# Altium footprint library Diode.PcbLib: 58 footprints (part 3 of 4)
Each footprint in its own frame and in the unit in brackets; x right, y up, seen from the top. Pads: shape width x height; smd on the part's side, far side on the other; paste and mask are expansions set on the pad; w line width, h text height; cw(c..) or ccw(c..) is an arc to the next point about the centre after c.
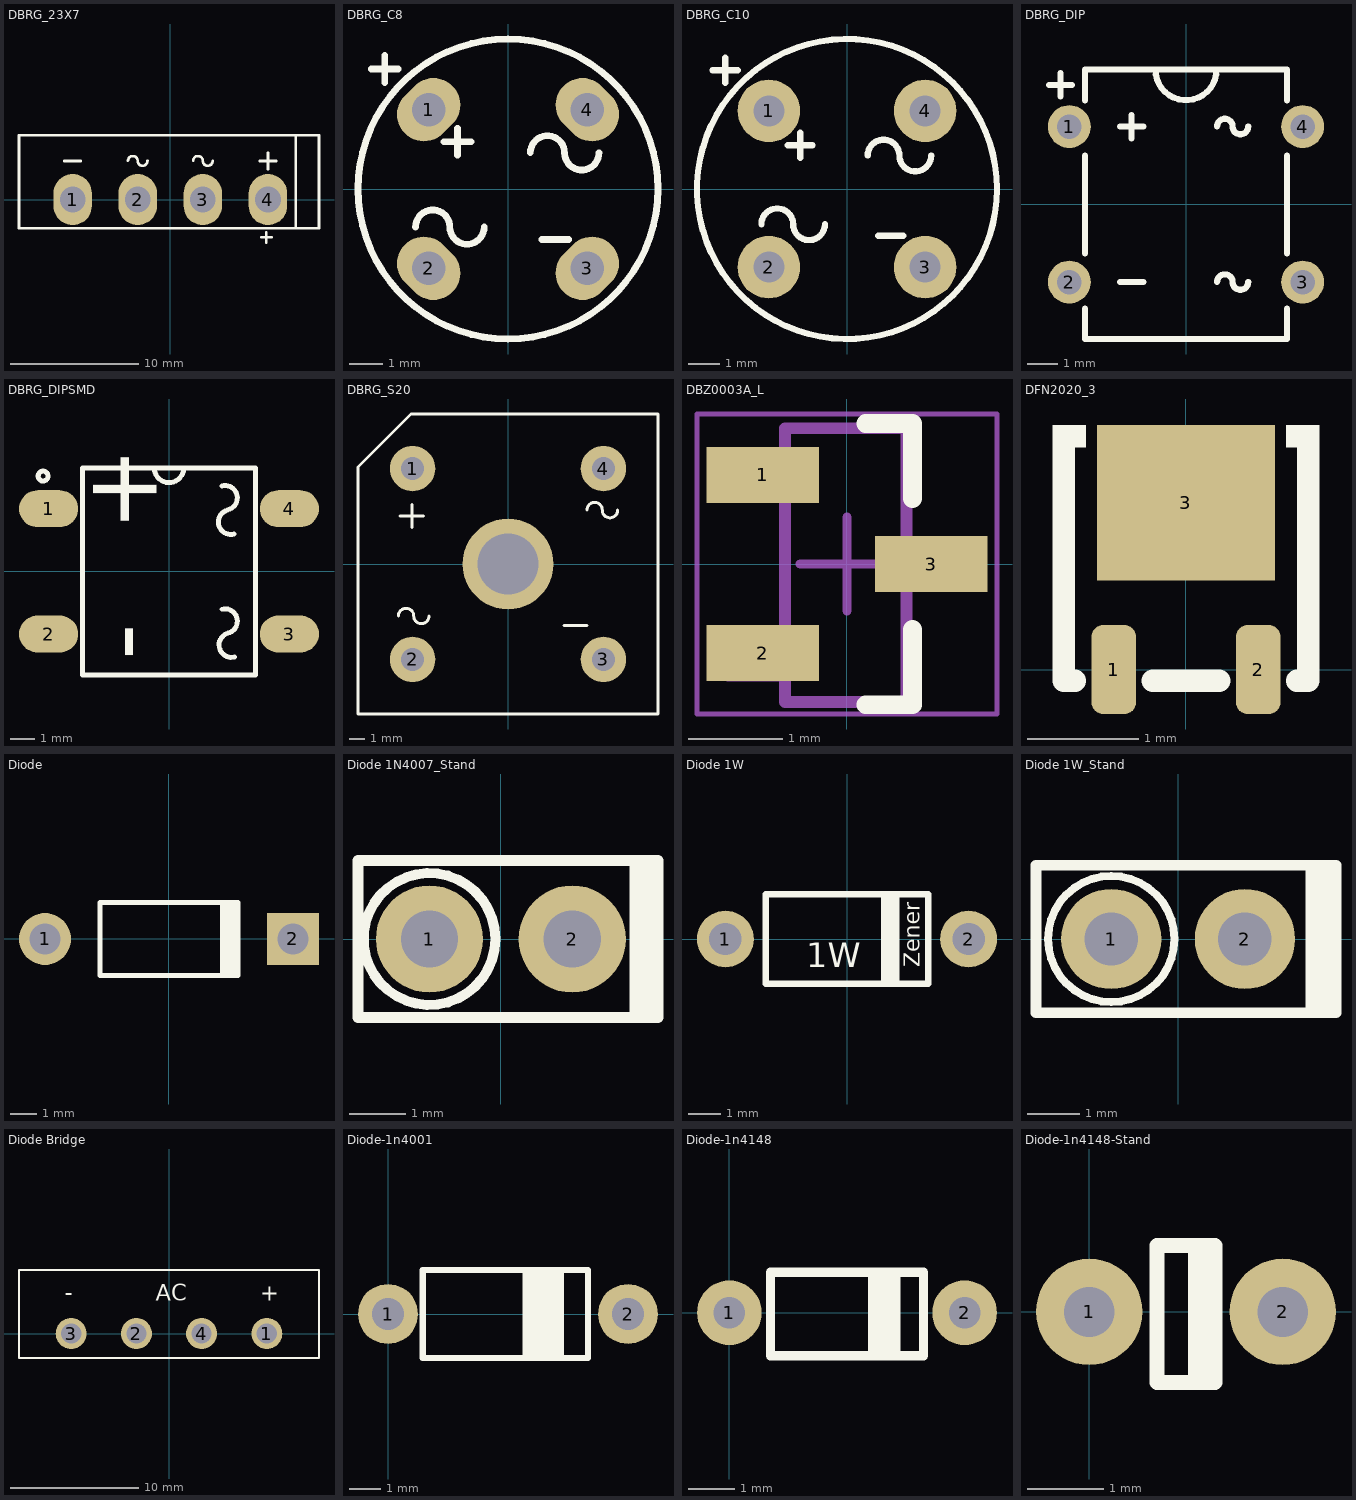
[diagram p2: the footprints below, top view; thin cyan lines are the x and y axes]

## DBRG_23X7 [mm] "BRDIGE RECTIFIER, KBU 810 pitch: 5.08mm, 23X7X19mm"
height 19
pads (4):
  oval 3x4 hole 2: 1(-7.62,0) 2(-2.54,0) 3(2.54,0) 4(7.62,0)
Top Overlay:
  lines w0.2: -8.255,3.009 -6.985,3.009 ; -3.302,3.015 cw(c-2.921,3.015) -2.54,3.015 ccw(c-2.159,3.015) -1.778,3.015 ; 1.778,3.015 cw(c2.159,3.015) 2.54,3.015 ccw(c2.921,3.015) 3.302,3.015 ; 6.985,3.009 8.255,3.009 ; 7.1,-2.954 7.9,-2.954 ; 7.5,-3.354 7.5,-2.554 ; 7.62,2.374 7.62,3.644 ; 9.8,-2.254 9.8,4.953 ; -11.8,-2.254 11.6,-2.254 11.6,5 -11.8,5 -11.8,-2.254
3D body "KBU8M.STEP": height 19.3, standoff -4, extent -11.7,-1.91 11.5,4.95

## DBRG_C8 [mm] "BRDIGE RECTIFIER, pitch: 4.7mm, 8X8mm"
height 5.1
pads (4):
  oval 1.6x2 hole 1 rot 135: 1(-2.35,2.35) 3(2.35,-2.35)
  oval 1.6x2 hole 1 rot 45: 2(-2.35,-2.35) 4(2.35,2.35)
Top Overlay:
  circle w0.2: c0,0 r4.445
  lines w0.2: -4.054,3.554 -3.254,3.554 ; -3.654,3.154 -3.654,3.954 ; -2.739,-1.129 cw(c-2.231,-1.129) -1.723,-1.129 ccw(c-1.215,-1.129) -0.707,-1.129 ; -1.9,1.4 -1.1,1.4 ; -1.5,1 -1.5,1.8 ; 0.661,1.071 cw(c1.169,1.071) 1.677,1.071 ccw(c2.185,1.071) 2.693,1.071 ; 1,-1.5 1.8,-1.5
3D body "bridge.STEP": height 5.21, standoff -1.9, extent -4.05,-4.05 4.05,4.05

## DBRG_C10 [mm] "BRDIGE RECTIFIER, WOB WOG, pitch: 5.08mm, 10X10mm"
pads (4):
  round 2 hole 1: 1(-2.5,2.5) 2(-2.5,-2.5) 3(2.5,-2.5) 4(2.5,2.5)
Top Overlay:
  circle w0.2: c0,0 r4.8
  lines w0.2: -4.3,3.8 -3.5,3.8 ; -3.9,3.4 -3.9,4.2 ; -2.739,-1.129 cw(c-2.231,-1.129) -1.723,-1.129 ccw(c-1.215,-1.129) -0.707,-1.129 ; -1.9,1.4 -1.1,1.4 ; -1.5,1 -1.5,1.8 ; 0.661,1.071 cw(c1.169,1.071) 1.677,1.071 ccw(c2.185,1.071) 2.693,1.071 ; 1,-1.5 1.8,-1.5
3D body "User Library-WOB-1.step": height 5.6, standoff -3.5, extent -4.65,-4.65 4.65,4.65

## DBRG_DIP [mm] "BRDIGE RECTIFIER, pitch: 5.08mm, 8X5mm"
pads (4):
  round 1.4 / inner round 1.4 / far side oct 2.2x1.4 hole 0.8: 1(-3.81,2.54)
  round 1.4 / inner round 1.4 / far side oval 2.2x1.4 hole 0.8: 2(-3.81,-2.54) 3(3.81,-2.54) 4(3.81,2.54)
Top Overlay:
  lines w0.2: -4.481,3.9 -3.719,3.9 ; -4.1,3.519 -4.1,4.281 ; -3.3,-3.4 -3.3,-4.4 3.3,-4.4 3.3,-3.4 ; -3.3,-1.6 -3.3,1.6 ; -3.3,3.4 -3.3,4.4 3.3,4.4 3.3,3.4 ; -2.159,-2.54 -1.397,-2.54 ; -2.159,2.54 -1.397,2.54 ; -1.778,2.159 -1.778,2.921 ; -1,4.4 ccw(c0,4.4) 1,4.4 ; 1.016,-2.54 cw(c1.27,-2.54) 1.524,-2.54 ccw(c1.778,-2.54) 2.032,-2.54 ; 1.016,2.54 cw(c1.27,2.54) 1.524,2.54 ccw(c1.778,2.54) 2.032,2.54 ; 3.3,-1.6 3.3,1.6
3D body "User Library-DFM_Bridge_Rectifier.step": height 4.05, standoff -3.35, extent -4,-4.255 4,4.255

## DBRG_DIPSMD [mm] "BRIDGE RECTIFIER, pitch: 5.08mm, 8X6mm, DB-S, DF005S"
pads (4):
  oval 2.4x1.5 smd: 1(-4.88,2.54) 2(-4.88,-2.54) 3(4.88,-2.54) 4(4.88,2.54)
Top Overlay:
  circle w0.2: c-5.102,3.864 r0.2
  lines w0.2: -0.6,4.2 ccw(c0,4.2) 0.599,4.175 ; 2.141,-1.534 cw(c2.271,-2.017) 2.4,-2.5 ccw(c2.529,-2.983) 2.659,-3.466 ; 2.141,3.466 cw(c2.271,2.983) 2.4,2.5 ; 2.371,2.483 ccw(c2.5,2) 2.629,1.517 ; -3.5,-4.2 3.5,-4.2 3.5,4.2 -3.5,4.2 -3.5,-4.2
  text "+" at -0.5,1.6 h3
  text "-" at -0.5,-3.6 h3
3D body "User Library-PONTE-1_DF_smt.STEP": height 2.7, standoff 0, extent -5.075,-4.05 5.075,4.05

## DBRG_S20 [mm] "BRIDGE RECTIFIER, pitch: 12.7mm, 20X20mm"
pads (5):
  round 3 hole 1.5: 1(-6.3,6.3) 2(-6.3,-6.3) 3(6.3,-6.3) 4(6.3,6.3)
  round 6 hole 4: ""(0,0)
Top Overlay:
  lines w0.2: -7.239,-3.429 cw(c-6.731,-3.429) -6.223,-3.429 ccw(c-5.715,-3.429) -5.207,-3.429 ; -7.112,3.175 -5.588,3.175 ; -6.35,2.413 -6.35,3.937 ; 3.683,-4.064 5.207,-4.064 ; 5.207,3.556 cw(c5.715,3.556) 6.223,3.556 ccw(c6.731,3.556) 7.239,3.556 ; -9.9,-9.9 -9.9,6.4 -6.4,9.9 9.9,9.9 9.9,-9.9 -9.9,-9.9
3D body "User Library-BR-8.step": height 7.5, standoff -3.5, extent -9.8,-9.8 9.8,9.8

## DBZ0003A_L [mm] "SOT23, 3-Leads, Body 2.9x1.3mm, Pitch 0.95mm, Lead Span 2.4mm, IPC High Density"
height 1.12
pads (3):
  rect 1.2x0.6 smd: 1(-0.9,0.95) 2(-0.9,-0.95) 3(0.9,0)
Top Overlay:
  lines w0.2: 0.2,-1.5 0.7,-1.5 0.7,-0.7 ; 0.2,1.5 0.7,1.5 0.7,0.7
Mechanical 1:
  lines w0.127: -1.27,-1.187 -1.063,-1.187 -1.005,-1.187 -0.814,-1.187 -0.66,-1.187 -0.66,-0.743 -0.814,-0.743 -1.005,-0.743 -1.063,-0.743 -1.27,-0.743 -1.27,-1.187 ; -1.27,0.718 -1.063,0.718 -1.005,0.718 -0.814,0.718 -0.66,0.718 -0.66,1.162 -0.814,1.162 -1.005,1.162 -1.063,1.162 -1.27,1.162 -1.27,0.718 ; -0.66,-1.473 0.635,-1.473 0.635,1.448 -0.66,1.448 -0.66,-1.473 ; 0.635,-0.235 0.635,0.21 0.789,0.21 0.98,0.21 1.037,0.21 1.245,0.21 1.245,-0.235 1.037,-0.235 0.98,-0.235 0.789,-0.235 0.635,-0.235
Mechanical 15:
  lines w0.05: -1.6,-1.6 -1.6,1.6 1.6,1.6 1.6,-1.6 -1.6,-1.6
  lines w0.1: -0.5,0 0.5,0 ; 0,-0.5 0,0.5
3D body "DBZ0003AakaMF03A.stp": height 0.96, standoff -0.02, extent -1.257,-1.461 1.257,1.46

## DFN2020_3 [mm] "DFN2020D-3, SOT1061D, Body 2X2X0.65mm"
height 0.65
pads (3):
  rrect50% 0.4x0.8 smd mask+0.075: 1(-0.65,0) 2(0.65,0)
  rect 1.6x1.4 smd mask+0.075: 3(0,1.5)
Top Overlay:
  rectangle: -1.2,2 -0.9,2.2
  region: 1.2,2.2 0.9,2.2 0.9,2 1.2,2
  lines w0.2: -1.1,2.1 -1.1,-0.1 -1,-0.1 ; -0.3,-0.1 0.3,-0.1 ; 1,-0.1 1.1,-0.1 1.1,2.1
3D body "User Library-SOT1061.step": height 0.65, standoff 0, extent -1,0 1,2.002

## Diode [mm] "Diode, Axial; Body 5.2 x 2.7 mm (LxDia. max), Lead Dia. 0.86 mm (max)"
height 2.8
pads (2):
  round 2 hole 1.2: 1(-4.762,0)
  rect 2x2 hole 1.2: 2(4.763,0)
Top Overlay:
  rectangle: 1.95,-1.4 2.75,1.4
  lines w0.2: 2.65,-1.4 -2.65,-1.4 -2.65,1.4 2.65,1.4
3D body "User Library-DO-41_375mil.STEP": height 2.83, standoff -2.52, extent -5.192,-1.355 5.193,1.345

## Diode 1N4007_Stand [mil]
pads (2):
  round 75 hole 40: 1(-50,0) 2(50,0)
Top Overlay:
  circle w7: c-50,0 r46.1
  rectangle: 90,-55 110,55
  lines w7.87: -100,-55 -100,55 110,55 110,-55 -100,-55
3D body "1N4007_Stand.STEP": height 291.09, standoff -39.37, extent -103,-52 65,53

## Diode 1W [mil]
height 122.05
pads (2):
  round 70 hole 40: 1(-150,0) 2(150,0)
Top Overlay:
  rectangle: 42,-55 65,55
  lines w7.87: -100,-55 -100,55 100,55 100,-55 -100,-55
  text "1W" at -50,-35 h30
  text "Zener" at 90,-35 h19.68
3D body "Zener 1W.STEP": height 131.24, standoff -39.37, extent -166,-52.5 165,52.5

## Diode 1W_Stand [mil]
pads (2):
  round 75 hole 40: 1(-50,0) 2(50,0)
Top Overlay:
  circle w5.91: c-50,0 r47.24
  rectangle: 95.47,-55 118.11,55
  lines w7.87: -106.3,-55 118.11,-55 118.11,55 -106.3,55 -106.3,-55
3D body "Zener 1W_Stand.STEP": height 291.09, standoff -39.37, extent -103,-52 65,53

## Diode Bridge [mil]
pads (4):
  round 95 hole 62: 1(300,0) 2(-100,0) 3(-300,0) 4(100,0)
Top Overlay:
  lines w7: -460,-75 -460,195 460,195 460,-75 -460,-75
  text "+" at 280,100 h50
  text "-" at -320,100 h50
  text "AC" at -40,100 h50
3D body "KBU8M.STEP": height 759.84, standoff -157.48, extent -455,-75 458.39,195.08

## Diode-1n4001 [mil]
pads (2):
  round 75 hole 40: 1(0,0) 2(300,0)
Top Overlay:
  rectangle: 167.83,-59.06 220,59.06
  lines w7.87: 43.31,-55 43.31,55 250,55 250,-55 43.31,-55
3D body "1N4007.STEP": height 131.24, standoff -39.37, extent -16,-52.5 315,52.5

## Diode-1n4148 [mil]
pads (2):
  round 55 hole 27: 1(0,0) 2(200,0)
Top Overlay:
  rectangle: 117.72,-36.5 145.28,34.37
  lines w7.87: 35,-36.5 165,-36.5 165,34.37 35,34.37 35,-36.5
3D body "1N4148.STEP": height 71.22, standoff -40, extent -6.5,-31.96 210.5,33

## Diode-1n4148-Stand [mil]
pads (2):
  round 55 hole 26: 1(0,0) 2(100,0)
Top Overlay:
  rectangle: 51,-36.5 67,34.37
  lines w7.87: 35,-36.5 65,-36.5 65,34.37 35,34.37 35,-36.5
3D body "1N4148_Stand_V2008.STEP": height 216.61, standoff -40, extent -32,-32 108.98,32.96